# Altium footprint library DGR150-04.PcbLib: 1 footprints
Each footprint in its own frame and in the unit in brackets; x right, y up, seen from the top. Pads: shape width x height; smd on the part's side, far side on the other; paste and mask are expansions set on the pad; w line width, h text height; cw(c..) or ccw(c..) is an arc to the next point about the centre after c.
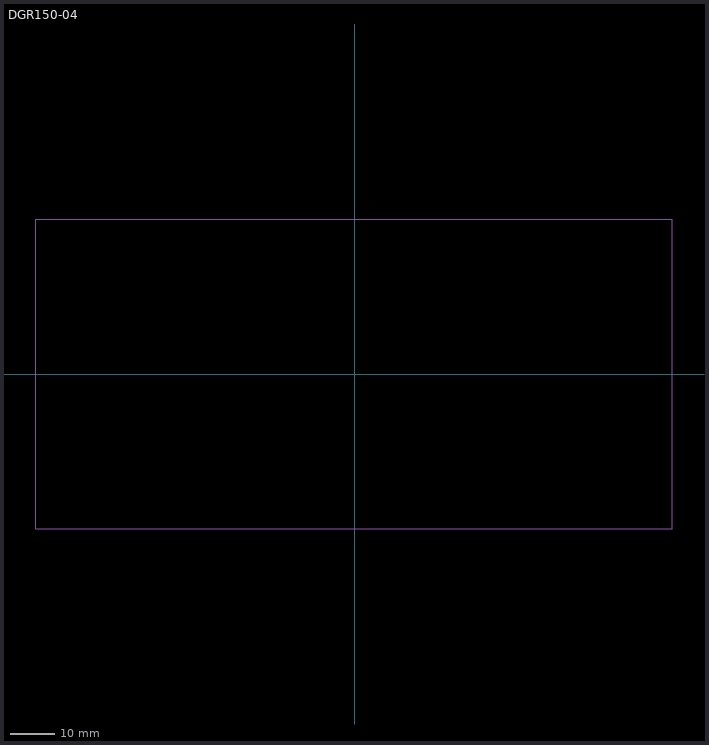
[diagram p0: the footprint, top view; thin cyan lines are the x and y axes]

## DGR150-04 [mm]
Mechanical 13:
  lines w0.254: -72.009,-34.925 -72.009,34.925 71.755,34.925 71.755,-34.925 -72.009,-34.925
  text ".Designator" at 0.381,8.382 h2.5
3D body: height 45, standoff -0.5, extent -72,-35 72,35